# Altium schematic symbol library Card Connectors.SchLib: 16 symbols
Pins are listed as number, name and electrical type; pins without a type are passive.

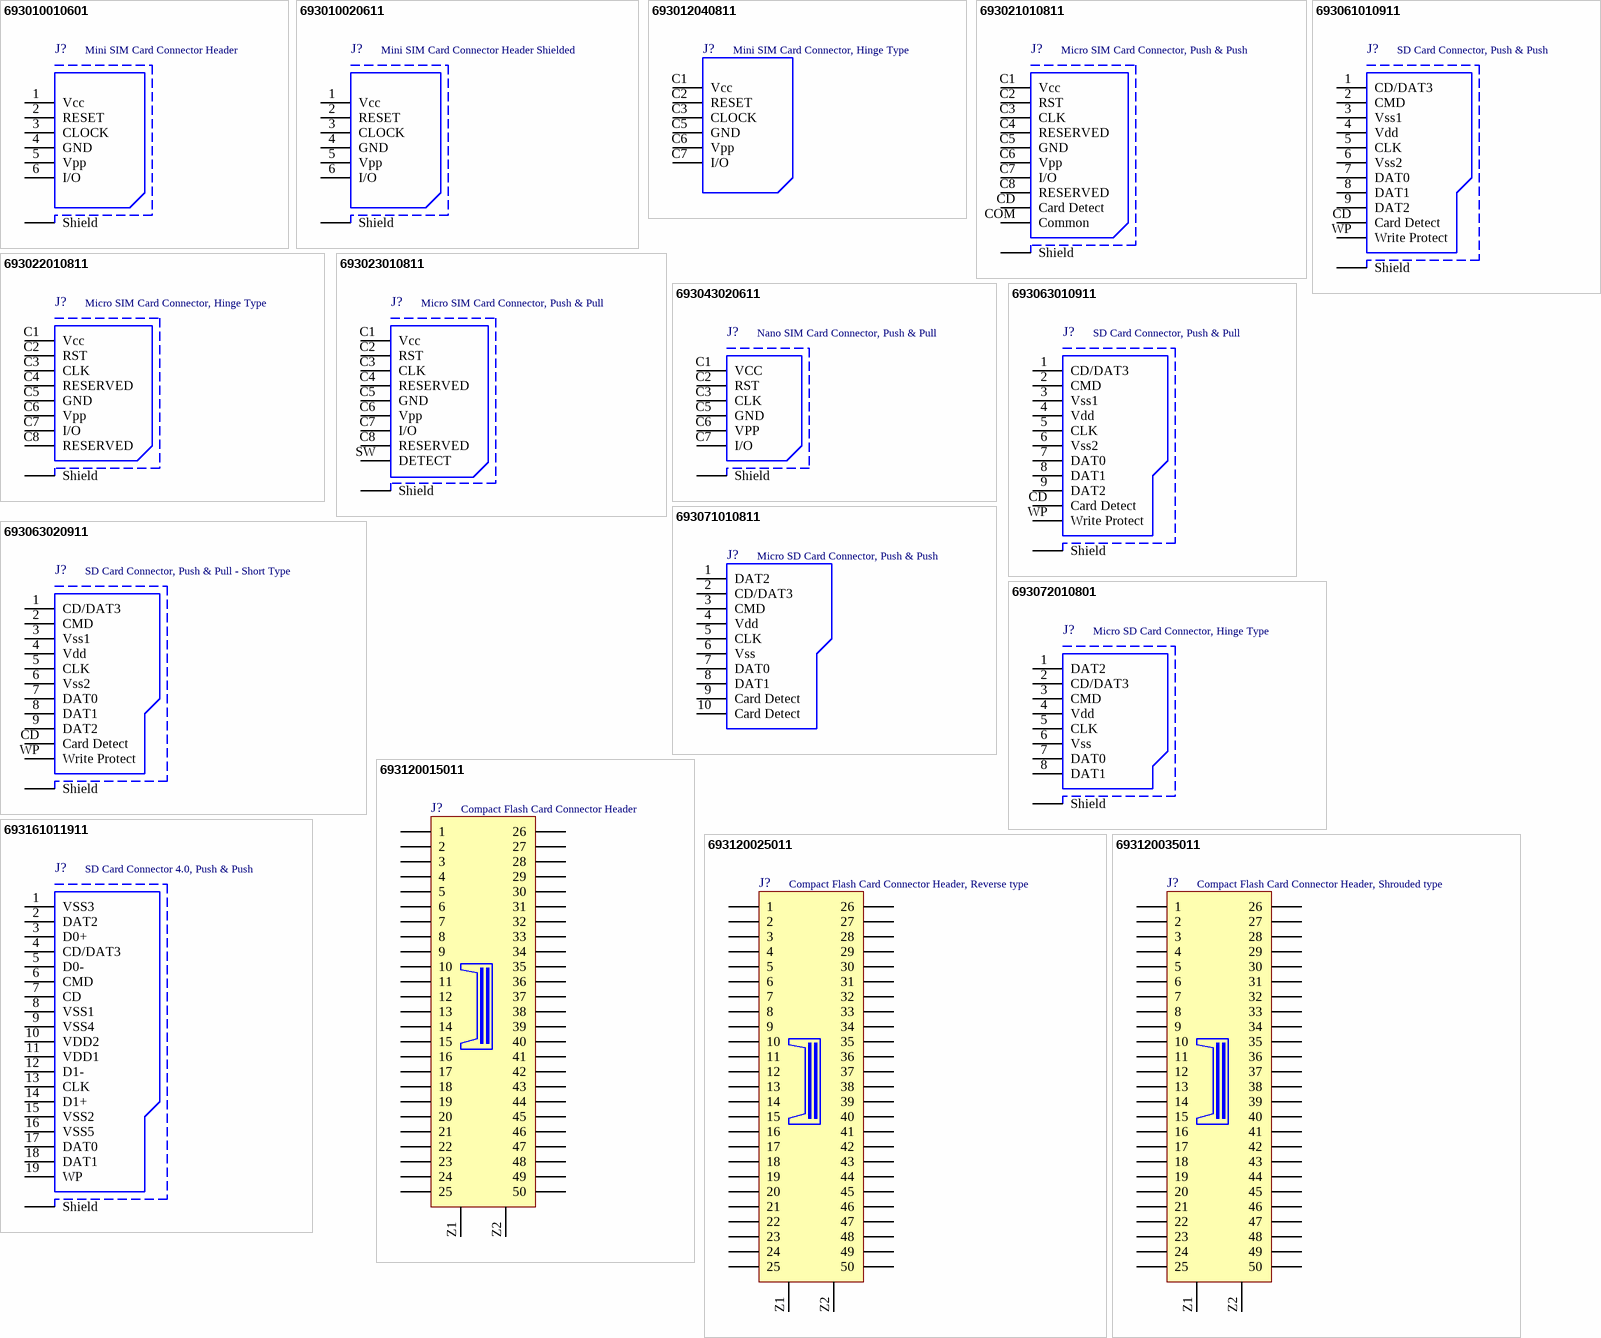
[diagram p0: symbols 693010010601 to 693161011911]

## 693010010601
designator J?, comment Mini SIM Card Connector Header
WR-CRD Mini SIM Card Connector Header; Part Number: 693010010601; Rated Current: 0.5A; Working Voltage: 500V AC; ComponentLink1Description: Manufacturer; ComponentLink1URL: http://www.we-online.de; ComponentLink2Description: Datasheet; ComponentLink2URL: http://katalog.we-online.de/em/datasheet/693010010601.pdf; Published Date: Feb. 2018; Publisher: Wurth Elektronik; Operating Temperature: -25 to 85 degC; Mounting Technology: SMT
footprint 693010010601
pins: 1 Vcc, 2 RESET, 3 CLOCK, 4 GND, 5 Vpp, 6 I/O, Shield

## 693010020611
designator J?, comment Mini SIM Card Connector Header Shielded
WR-CRD Mini SIM Card Connector Header Shielded; Part Number: 693010020611; Rated Current: 0.5A; Working Voltage: 500V AC; ComponentLink1Description: Manufacturer; ComponentLink1URL: http://www.we-online.de; ComponentLink2Description: Datasheet; ComponentLink2URL: http://katalog.we-online.de/em/datasheet/693010020611.pdf; Published Date: Feb. 2018; Publisher: Wurth Elektronik; Operating Temperature: -25 to 85 degC; Mounting Technology: SMT
footprint 693010020611
pins: 1 Vcc, 2 RESET, 3 CLOCK, 4 GND, 5 Vpp, 6 I/O, Shield

## 693012040811
designator J?, comment Mini SIM Card Connector, Hinge Type
WR-CRD Mini SIM Card Connector, Hinge Type; Part Number: 693012040811; Rated Current: 1A; Working Voltage: 100V AC; ComponentLink1Description: Manufacturer; ComponentLink1URL: http://www.we-online.de; ComponentLink2Description: Datasheet; ComponentLink2URL: http://katalog.we-online.de/em/datasheet/693012040811.pdf; Published Date: Feb. 2018; Publisher: Wurth Elektronik; Operating Temperature: -25 to 85 degC; Mounting Technology: SMT
footprint 693012040811
pins: C1 Vcc, C2 RESET, C3 CLOCK, C5 GND, C6 Vpp, C7 I/O

## 693021010811
designator J?, comment Micro SIM Card Connector, Push & Push
WR-CRD Micro SIM Card Connector, Push & Push, with Card Detection; Part Number: 693021010811; Rated Current: 1A; Working Voltage: 500V AC; ComponentLink1Description: Manufacturer; ComponentLink1URL: http://www.we-online.de; ComponentLink2Description: Datasheet; ComponentLink2URL: http://katalog.we-online.de/em/datasheet/693021010811.pdf; Published Date: Feb. 2018; Publisher: Wurth Elektronik; Operating Temperature: -25 to 85 degC; Mounting Technology: SMT
footprint 693021010811
pins: C1 Vcc, C2 RST, C3 CLK, C4 RESERVED, C5 GND, C6 Vpp, C7 I/O, C8 RESERVED, CD Card Detect, COM Common, Shield

## 693022010811
designator J?, comment Micro SIM Card Connector, Hinge Type
WR-CRD Micro SIM Card Connector, Hinge Type; Part Number: 693022010811; Rated Current: 1A; Working Voltage: 500V AC; ComponentLink1Description: Manufacturer; ComponentLink1URL: http://www.we-online.de; ComponentLink2Description: Datasheet; ComponentLink2URL: http://katalog.we-online.de/em/datasheet/693022010811.pdf; Published Date: Feb. 2018; Publisher: Wurth Elektronik; Operating Temperature: -25 to 85 degC; Mounting Technology: SMT
footprint 693022010811
pins: C1 Vcc, C2 RST, C3 CLK, C4 RESERVED, C5 GND, C6 Vpp, C7 I/O, C8 RESERVED, Shield

## 693023010811
designator J?, comment Micro SIM Card Connector, Push & Pull
WR-CRD Micro SIM Card Connector, Push & Pull, with Card Detection; Part Number: 693023010811; Rated Current: 1A; Working Voltage: 500V AC; ComponentLink1Description: Manufacturer; ComponentLink1URL: http://www.we-online.de; ComponentLink2Description: Datasheet; ComponentLink2URL: http://katalog.we-online.de/em/datasheet/693023010811.pdf; Published Date: Feb. 2018; Publisher: Wurth Elektronik; Operating Temperature: -25 to 85 degC; Mounting Technology: SMT
footprint 693023010811
pins: C1 Vcc, C2 RST, C3 CLK, C4 RESERVED, C5 GND, C6 Vpp, C7 I/O, C8 RESERVED, Shield, SW DETECT

## 693043020611
designator J?, comment Nano SIM Card Connector, Push & Pull
WR-CRD Nano SIM Card Connector, Push & Pull; Part Number: 693043020611; Rated Current: 1A; Working Voltage: 500V AC; ComponentLink1Description: Manufacturer; ComponentLink1URL: http://www.we-online.de; ComponentLink2Description: Datasheet; ComponentLink2URL: http://katalog.we-online.de/em/datasheet/693043020611.pdf; Published Date: Feb. 2018; Publisher: Wurth Elektronik; Operating Temperature: -25 to 85 degC; Mounting Technology: SMT
footprint 693043020611
pins: C1 VCC, C2 RST, C3 CLK, C5 GND, C6 VPP, C7 I/O, Shield

## 693061010911
designator J?, comment SD Card Connector, Push & Push
WR-CRD SD Card Connector, Push & Push, with Card Detection; Part Number: 693061010911; Rated Current: 0.5A; Working Voltage: 500V AC; ComponentLink1Description: Manufacturer; ComponentLink1URL: http://www.we-online.de; ComponentLink2Description: Datasheet; ComponentLink2URL: http://katalog.we-online.de/em/datasheet/693061010911.pdf; Published Date: Feb. 2018; Publisher: Wurth Elektronik; Operating Temperature: -25 to 85 degC; Mounting Technology: SMT
footprint 693061010911
pins: 1 CD/DAT3, 2 CMD, 3 Vss1, 4 Vdd, 5 CLK, 6 Vss2, 7 DAT0, 8 DAT1, 9 DAT2, CD Card Detect, Shield, WP Write Protect

## 693063010911
designator J?, comment SD Card Connector, Push & Pull
WR-CRD SD Card Connector, Push & Pull, with Card Detection; Part Number: 693063010911; Rated Current: 0.5A; Working Voltage: 500V AC; ComponentLink1Description: Manufacturer; ComponentLink1URL: http://www.we-online.de; ComponentLink2Description: Datasheet; ComponentLink2URL: http://katalog.we-online.de/em/datasheet/693063010911.pdf; Published Date: Feb. 2018; Publisher: Wurth Elektronik; Operating Temperature: -25 to 85 degC; Mounting Technology: SMT
footprint 693063010911
pins: 1 CD/DAT3, 2 CMD, 3 Vss1, 4 Vdd, 5 CLK, 6 Vss2, 7 DAT0, 8 DAT1, 9 DAT2, CD Card Detect, Shield, WP Write Protect

## 693063020911
designator J?, comment SD Card Connector, Push & Pull - Short Type
WR-CRD SD Card Connector, Push & Pull - Short Type, with Card Detection; Part Number: 693063020911; Rated Current: 0.5A; Working Voltage: 500V AC; ComponentLink1Description: Manufacturer; ComponentLink1URL: http://www.we-online.de; ComponentLink2Description: Datasheet; ComponentLink2URL: http://katalog.we-online.de/em/datasheet/693063020911.pdf; Published Date: Feb. 2018; Publisher: Wurth Elektronik; Operating Temperature: -25 to 85 degC; Mounting Technology: SMT
footprint 693063020911
pins: 1 CD/DAT3, 2 CMD, 3 Vss1, 4 Vdd, 5 CLK, 6 Vss2, 7 DAT0, 8 DAT1, 9 DAT2, CD Card Detect, Shield, WP Write Protect

## 693071010811
designator J?, comment Micro SD Card Connector, Push & Push
WR-CRD Micro SD Card Connector, Push & Push, with card detection; Part Number: 693071010811; Rated Current: 0.5A; Working Voltage: 500V AC; ComponentLink1Description: Manufacturer; ComponentLink1URL: http://www.we-online.de; ComponentLink2Description: Datasheet; ComponentLink2URL: http://katalog.we-online.de/em/datasheet/693071010811.pdf; Published Date: Feb. 2018; Publisher: Wurth Elektronik; Operating Temperature: -25 to 85 degC; Mounting Technology: SMT
footprint 693071010811
pins: 1 DAT2, 2 CD/DAT3, 3 CMD, 4 Vdd, 5 CLK, 6 Vss, 7 DAT0, 8 DAT1, 9 Card Detect, 10 Card Detect

## 693072010801
designator J?, comment Micro SD Card Connector, Hinge Type
WR-CRD Micro SD Card Connector, Hinge Type; Part Number: 693072010801; Rated Current: 0.5A; Working Voltage: 500V AC; ComponentLink1Description: Manufacturer; ComponentLink1URL: http://www.we-online.de; ComponentLink2Description: Datasheet; ComponentLink2URL: http://katalog.we-online.de/em/datasheet/693072010801.pdf; Published Date: Feb. 2018; Publisher: Wurth Elektronik; Operating Temperature: -25 to 85 degC; Mounting Technology: SMT
footprint 693072010801
pins: 1 DAT2, 2 CD/DAT3, 3 CMD, 4 Vdd, 5 CLK, 6 Vss, 7 DAT0, 8 DAT1, Shield

## 693120015011
designator J?, comment Compact Flash Card Connector Header
WR-CRD Compact Flash Card Connector Header; Part Number: 693120015011; Rated Current: 0.5A; Working Voltage: 500V AC; ComponentLink1Description: Manufacturer; ComponentLink1URL: http://www.we-online.de; ComponentLink2Description: Datasheet; ComponentLink2URL: http://katalog.we-online.de/em/datasheet/693120015011.pdf; Published Date: Feb. 2018; Publisher: Wurth Elektronik; Operating Temperature: -25 to 85 degC; Mounting Technology: SMT
footprint 693120015011
pins: 1, 2, 3, 4, 5, 6, 7, 8, 9, 10, 11, 12, 13, 14, 15, 16, 17, 18, 19, 20, 21, 22, 23, 24, 25, 26, 27, 28, 29, 30, 31, 32, 33, 34, 35, 36, 37, 38, 39, 40, 41, 42, 43, 44, 45, 46, 47, 48, 49, 50, Z1, Z2

## 693120025011
designator J?, comment Compact Flash Card Connector Header, Reverse type
WR-CRD Compact Flash Card Connector Header, Reverse type; Part Number: 693120025011; Rated Current: 0.5A; Working Voltage: 500V AC; ComponentLink1Description: Manufacturer; ComponentLink1URL: http://www.we-online.de; ComponentLink2Description: Datasheet; ComponentLink2URL: http://katalog.we-online.de/em/datasheet/693120025011.pdf; Published Date: Feb. 2018; Publisher: Wurth Elektronik; Operating Temperature: -25 to 85 degC; Mounting Technology: SMT
footprint 693120025011
pins: 1, 2, 3, 4, 5, 6, 7, 8, 9, 10, 11, 12, 13, 14, 15, 16, 17, 18, 19, 20, 21, 22, 23, 24, 25, 26, 27, 28, 29, 30, 31, 32, 33, 34, 35, 36, 37, 38, 39, 40, 41, 42, 43, 44, 45, 46, 47, 48, 49, 50, Z1, Z2

## 693120035011
designator J?, comment Compact Flash Card Connector Header, Shrouded type
WR-CRD Compact Flash Card Connector Header, Shrouded type; Part Number: 693120035011; Rated Current: 0.5A; Working Voltage: 500V AC; ComponentLink1Description: Manufacturer; ComponentLink1URL: http://www.we-online.de; ComponentLink2Description: Datasheet; ComponentLink2URL: http://katalog.we-online.de/em/datasheet/693120035011.pdf; Published Date: Feb. 2018; Publisher: Wurth Elektronik; Operating Temperature: -25 to 85 degC; Mounting Technology: SMT
footprint 693120035011
pins: 1, 2, 3, 4, 5, 6, 7, 8, 9, 10, 11, 12, 13, 14, 15, 16, 17, 18, 19, 20, 21, 22, 23, 24, 25, 26, 27, 28, 29, 30, 31, 32, 33, 34, 35, 36, 37, 38, 39, 40, 41, 42, 43, 44, 45, 46, 47, 48, 49, 50, Z1, Z2

## 693161011911
designator J?, comment SD Card Connector 4.0, Push & Push
WR-CRD SD Card Connector 4.0, Push & Push, with Card Detection; Part Number: 693161011911; Rated Current: 1A; Working Voltage: 500V AC; ComponentLink1Description: Manufacturer; ComponentLink1URL: http://www.we-online.de; ComponentLink2Description: Datasheet; ComponentLink2URL: http://katalog.we-online.de/em/datasheet/693161011911.pdf; Published Date: Feb. 2018; Publisher: Wurth Elektronik; Operating Temperature: -25 to 60 degC; Mounting Technology: SMT
footprint 693161011911
pins: 1 VSS3, 2 DAT2, 3 D0+, 4 CD/DAT3, 5 D0-, 6 CMD, 7 CD, 8 VSS1, 9 VSS4, 10 VDD2, 11 VDD1, 12 D1-, 13 CLK, 14 D1+, 15 VSS2, 16 VSS5, 17 DAT0, 18 DAT1, 19 WP, Shield